# Altium schematic symbol library PC_8OUT_V0.SCHLIB: 66 symbols
Pins are listed as number, name and electrical type; pins without a type are passive.

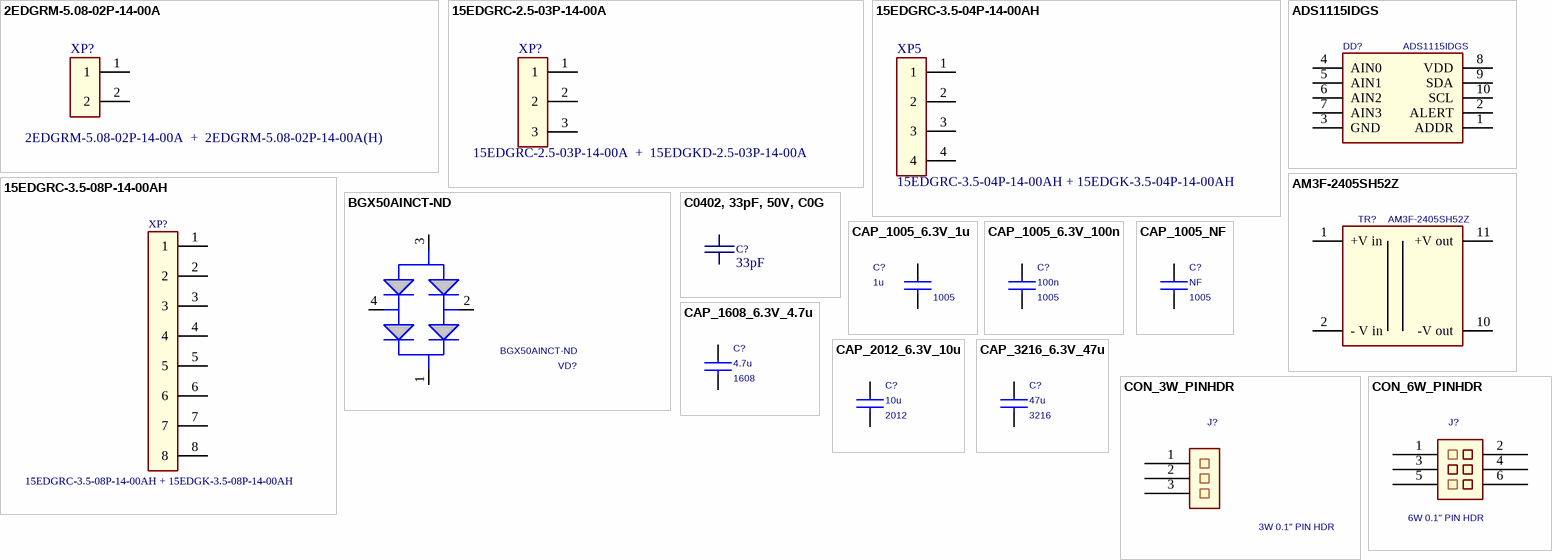
[diagram p0: symbols 2EDGRM-5.08-02P-14-00A to CON_6W_PINHDR]

## 2EDGRM-5.08-02P-14-00A
designator XP?, comment 2EDGRM-5.08-02P-14-00A  +  2EDGRM-5.08-02P-14-00A(H)
2EDGRM-5.08-02P-14-00A
footprint 2EDGRM-5.08-02P-14-00A
pins: 1, 2

## 15EDGRC-2.5-03P-14-00A
designator XP?, comment 15EDGRC-2.5-03P-14-00A  +  15EDGKD-2.5-03P-14-00A
footprint 15EDGRC-2.5-03P-14-00A(H)
pins: 1, 2, 3

## 15EDGRC-3.5-04P-14-00AH
designator XP5, comment 15EDGRC-3.5-04P-14-00AH + 15EDGK-3.5-04P-14-00AH
Connector 15EDGRC-3.5-04P-14-00AH + 15EDGK-3.5-04P-14-00AH
footprint 15EDGRC-3.5-04P-14-00AH
pins: 1, 2, 3, 4

## 15EDGRC-3.5-08P-14-00AH
designator XP?, comment 15EDGRC-3.5-08P-14-00AH + 15EDGK-3.5-08P-14-00AH
Connector 15EDGRC-3.5-08P-14-00AH + 15EDGK-3.5-08P-14-00AH
footprint 15EDGRC-3.5-06P-14-00AH
pins: 1, 2, 3, 4, 5, 6, 7, 8

## ADS1115IDGS
designator DD?
16 Bit Analog to Digital Converter 2, 4 Input 1 Sigma-Delta 10-VSSOP
footprint VSSOP10
pins: 1 ADDR, 2 ALERT, 3 GND, 4 AIN0, 5 AIN1, 6 AIN2, 7 AIN3, 8 VDD, 9 SDA, 10 SCL

## AM3F-2405SH52Z
designator TR?
DC-DC Converter. In 24V out 5V 0.6A
footprint SIP12 (PPAK)
pins: 1 +V in, 2 - V in, 10 -V out, 11 +V out

## BGX50AINCT-ND
designator VD?
footprint SOT-143_BIG1
pins: 1, 2, 3, 4

## C0402, 33pF, 50V, C0G
designator C?  Capacitance: 33pF  (hidden comment: C0402, 33pF, 50V, C0G)
Manufacturer: MURATA; Manufacturer Part Number: GRM155R71C104KA88D; Capacitance Tolerance: ± 10%; Dielectric Characteristic: X7; Voltage Rating: 16; Capacitor Case Style: 0402 [1005 Metric]; Capacitor Terminals: SMD; SVHC: No SVHC (19-Dec-2012); No. of Pins: 2; Reel Quantity: 10000; Tolerance +: 10%; Supplier 1: Farnell; Supplier Part Number 1: 1118151; RoHS: YES; Stock: 3; Pricing: 10000=0.008593, 30000=0.007991 (GBP); Operating Temperature Min: -55; Operating Temperature Max: 125; Operating Temperature Range: -55°C to +125; Package / Case: 0402; Packaging: Reel; Series: GRM Hi-Cap; Terminal Type: Surface Mount (SMD, SMT); Tolerance -: 10%; Voltage Rating V DC: 16; ComponentLink1URL: http://www.farnell.com/datasheets/4360.pdf; ComponentLink1Description: http://www.farnell.com/datasheets/4360.pdf
footprint C0402_IPC High Density (Chip Capacitor, 2-Leads, Body 1.00x0.50mm, IPC High Density)
pins: 1, 2

## CAP_1005_6.3V_1u
designator C?, comment 1u  Size: 1005
CAP, CHIP, 1005, 1u, 10%, 6.3V; Manufacturer: Generic; Material: X7R; Tolerance: 10%; Manuf. Part No: Generic; Voltage: 6.3V
footprint CAPC1005X55N
pins: 1, 2

## CAP_1005_6.3V_100n
designator C?, comment 100n  Size: 1005
CAP, CHIP, 1005, 100n, 10%, 6.3V; Manuf. Part No: Generic; Material: X7R; Voltage: 6.3V; Tolerance: 10%; Manufacturer: Generic
footprint CAPC1005X55N
pins: 1, 2

## CAP_1005_NF
designator C?, comment NF  Size: 1005
CAP, CHIP, 1005; Manuf. Part No: Generic; Material: X7R; Manufacturer: Generic
footprint CAPC1005X55N
pins: 1, 2

## CAP_1608_6.3V_4.7u
designator C?, comment 4.7u  Size: 1608
CAP, CHIP, 1608, 4.7u, 20%, 6.3V; Manufacturer: Generic; Material: X7R; Tolerance: 20%; Manuf. Part No: Generic; Voltage: 6.3V
footprint CAPC1608X90N
pins: 1, 2

## CAP_2012_6.3V_10u
designator C?, comment 10u  Size: 2012
CAP, CHIP, 2012, 10u, 20%, 6.3V; Manufacturer: Generic; Material: X7R; Tolerance: 20%; Manuf. Part No: Generic; Voltage: 6.3V
footprint CAPC2012X145N
pins: 1, 2

## CAP_3216_6.3V_47u
designator C?, comment 47u  Size: 3216
CAP, CHIP, 3216, 47u, 20%, 6.3V; Manufacturer: Generic; Material: X7R; Tolerance: 20%; Manuf. Part No: Generic; Voltage: 6.3V
footprint CAPC3216X180N
pins: 1, 2

## CON_3W_PINHDR
designator J?, comment 3W 0.1" PIN HDR
3W 0.1" pin header; Manuf. Part No: TBD; Manufacturer: TBD
footprint PINHDR_3W_2P54MM
pins: 1 P1, 2 P2, 3 P3

## CON_6W_PINHDR
designator J?, comment 6W 0.1" PIN HDR
6W 0.1" pin header (2x3W); Manufacturer: Generic; Manuf. Part No: Generic
footprint PINHDR_6W_2P54MM
pins: 1 P1, 2 P2, 3 P3, 4 P4, 5 P5, 6 P6

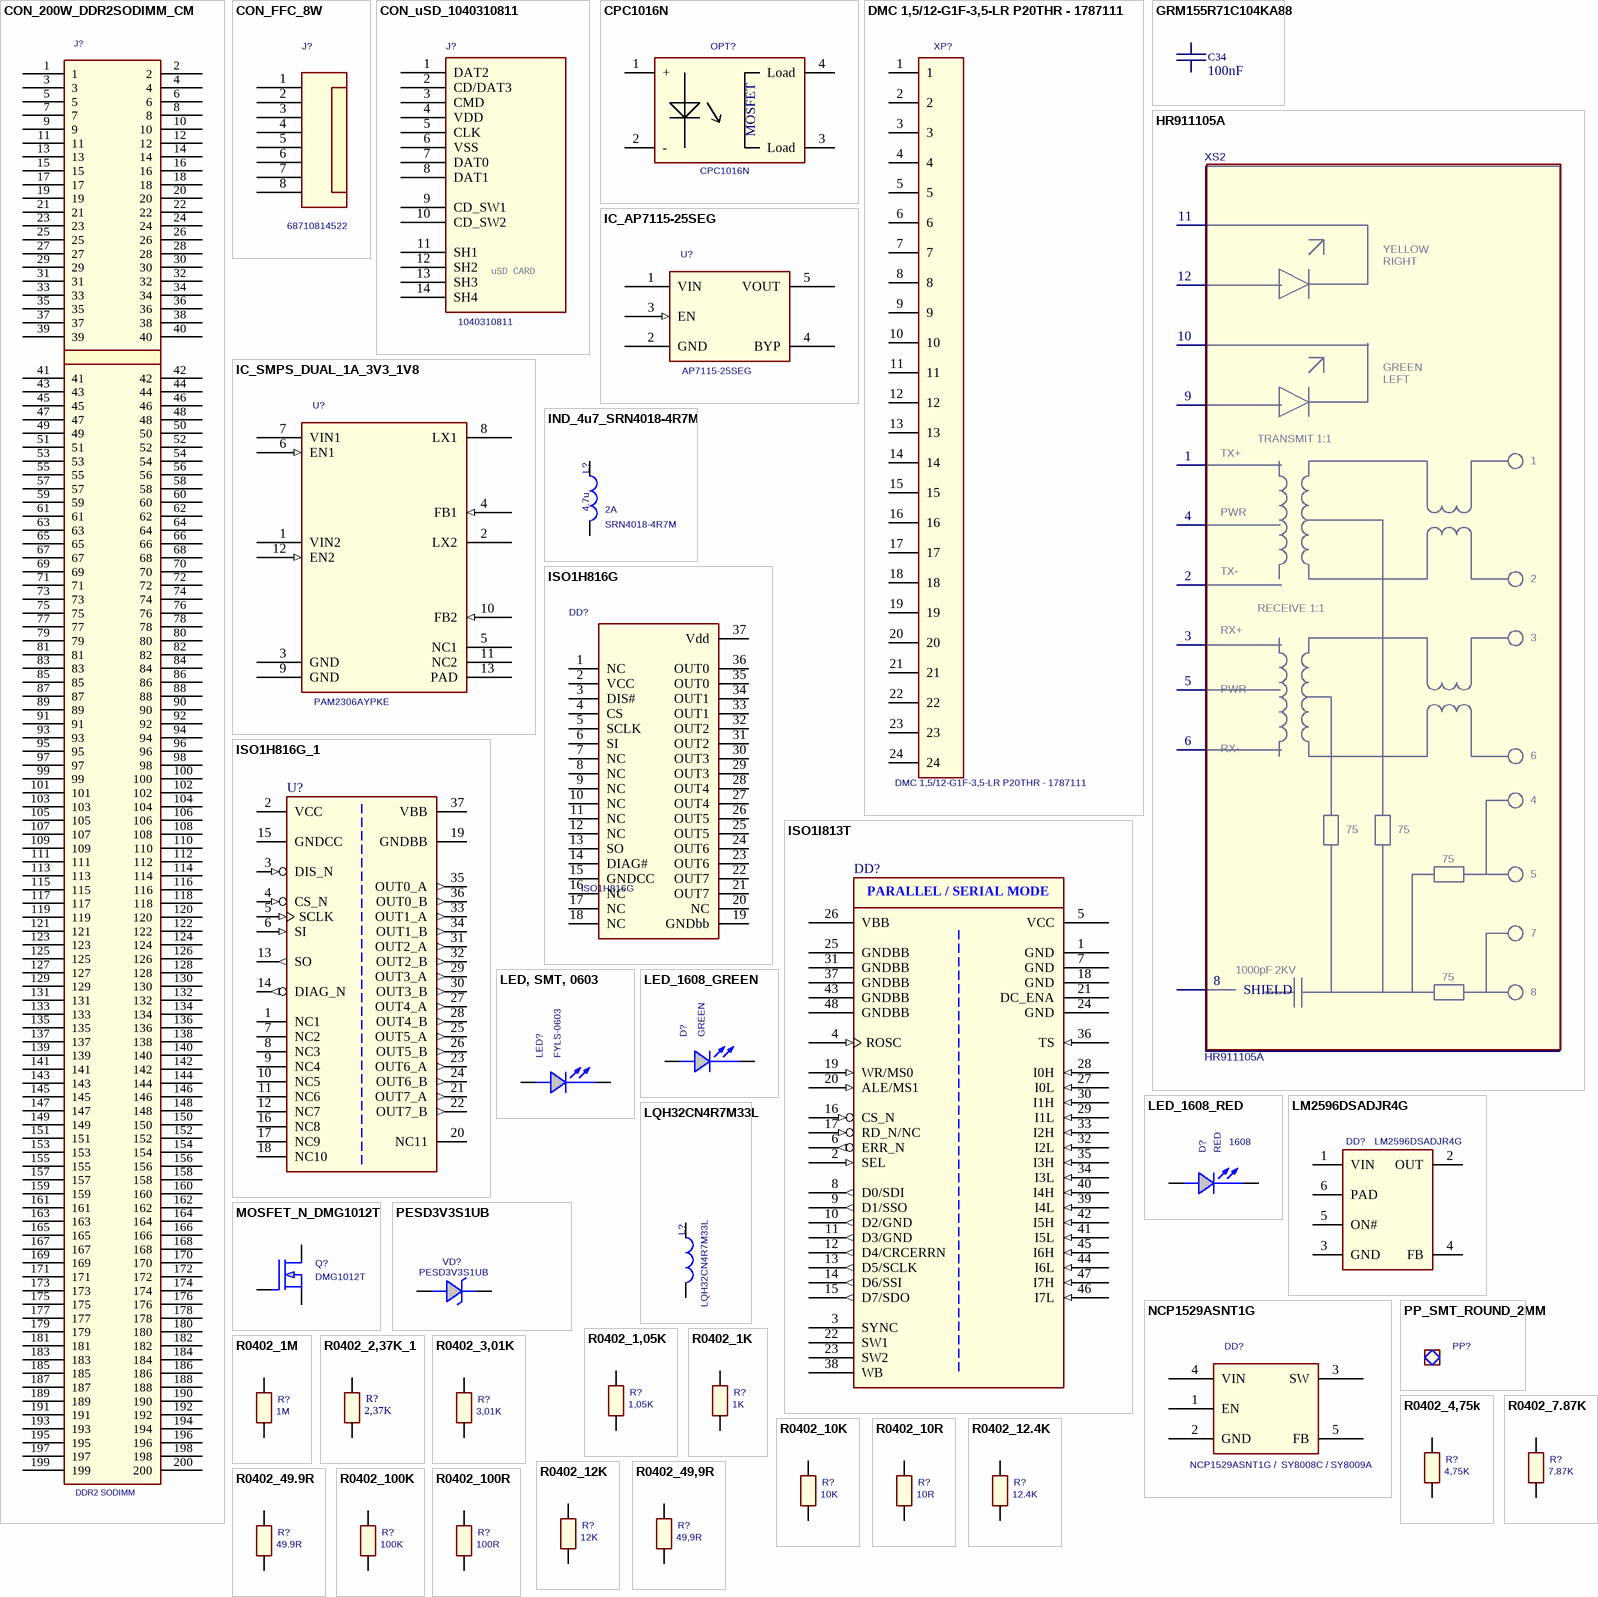
[diagram p1: symbols CON_200W_DDR2SODIMM_CM to R0402_100R]

## CON_200W_DDR2SODIMM_CM
designator J?, comment DDR2 SODIMM
footprint 1473005-4+RPI3 CM
pins: 1, 2, 3, 4, 5, 6, 7, 8, 9, 10, 11, 12, 13, 14, 15, 16, 17, 18, 19, 20, 21, 22, 23, 24, 25, 26, 27, 28, 29, 30, 31, 32, 33, 34, 35, 36, 37, 38, 39, 40, 41, 42, 43, 44, 45, 46, 47, 48, 49, 50, 51, 52, 53, 54, 55, 56, 57, 58, 59, 60, 61, 62, 63, 64, 65, 66, 67, 68, 69, 70, 71, 72, 73, 74, 75, 76, 77, 78, 79, 80, 81, 82, 83, 84, 85, 86, 87, 88, 89, 90, 91, 92, 93, 94, 95, 96, 97, 98, 99, 100, 101, 102, 103, 104, 105, 106, 107, 108, 109, 110, 111, 112, 113, 114, 115, 116, 117, 118, 119, 120, 121, 122, 123, 124, 125, 126, 127, 128, 129, 130, 131, 132, 133, 134, 135, 136, 137, 138, 139, 140, 141, 142, 143, 144, 145, 146, 147, 148, 149, 150, 151, 152, 153, 154, 155, 156, 157, 158, 159, 160, 161, 162, 163, 164, 165, 166, 167, 168, 169, 170, 171, 172, 173, 174, 175, 176, 177, 178, 179, 180, 181, 182, 183, 184, 185, 186, 187, 188, 189, 190, 191, 192, 193, 194, 195, 196, 197, 198, 199, 200

## CON_FFC_8W
designator J?, comment 68710814522
0.5MM FFC 8W RA BOTTOM CONTACT SMT; Manufacturer: Wurth Electronics; Manuf. Part No: 68710814522
footprint WE_68710814522
pins: 1 P1, 2 P2, 3 P3, 4 P4, 5 P5, 6 P6, 7 P7, 8 P8

## CON_uSD_1040310811
designator J?, comment 1040310811
uSD, Normal Mount, SMT, Push-Pull; Manufacturer: Molex; Manuf. Part No: 1040310811
footprint MOLEX_1040310811
pins: 1 DAT2, 2 CD/DAT3, 3 CMD, 4 VDD (power), 5 CLK, 6 VSS (power), 7 DAT0, 8 DAT1, 9 CD_SW1, 10 CD_SW2, 11 SH1, 12 SH2, 13 SH3, 14 SH4
text: uSD CARD

## CPC1016N
designator OPT?
Single-Pole, Normally Open  4-Lead SOP OptoMOS Relay
footprint SOP4
pins: 1 +, 2 -, 3 Load, 4 Load
text: MOSFET

## DMC 1,5/12-G1F-3,5-LR P20THR - 1787111
designator XP?
version with 20 contacts    Header, nominal current: 8 A, rated voltage (III/2): 160 V, number of positions: 12, pitch: 3.5 mm, color: black, contact surface: Tin, mounting: THR soldering
footprint DMC 1,5/12-G1F-3,5-LR P20THR - 1787111 (PCI EXPRESS CARD EDGE CONN 36 PIN V-TYPE)
pins: 1, 2, 3, 4, 5, 6, 7, 8, 9, 10, 11, 12, 13, 14, 15, 16, 17, 18, 19, 20, 21, 22, 23, 24

## GRM155R71C104KA88
designator C34  Capacitance: 100nF  (hidden comment: GRM155R71C104KA88)
C0402, 100nF,  16V, X7R; Manufacturer: MURATA; Manufacturer Part Number: GRM155R71C104KA88D; Capacitance Tolerance: ± 10%; Dielectric Characteristic: X7; Voltage Rating: 16; Capacitor Case Style: 0402 [1005 Metric]; Capacitor Terminals: SMD; SVHC: No SVHC (19-Dec-2012); No. of Pins: 2; Reel Quantity: 10000; Tolerance +: 10%; Supplier 1: Farnell; Supplier Part Number 1: 1118151; RoHS: YES; Stock: 3; Pricing: 10000=0.008593, 30000=0.007991 (GBP); Operating Temperature Min: -55; Operating Temperature Max: 125; Operating Temperature Range: -55°C to +125; Package / Case: 0402; Packaging: Reel; Series: GRM Hi-Cap; Terminal Type: Surface Mount (SMD, SMT); Tolerance -: 10%; Voltage Rating V DC: 16; ComponentLink1URL: http://www.farnell.com/datasheets/4360.pdf; ComponentLink1Description: http://www.farnell.com/datasheets/4360.pdf
footprint C0402_IPC High Density (Chip Capacitor, 2-Leads, Body 1.00x0.50mm, IPC High Density)
pins: 1, 2

## HR911105A
designator XS2
Single Port RJ45 connector with magnetics module and LED
pins: 1, 2, 3, 4, 5, 6, 8 SHIELD, 9, 10, 11, 12, 113 hidden, 114 hidden, 115 hidden, 116 hidden, 117 hidden, 118 hidden, 119 hidden, 120 hidden, 121 hidden
text: YELLOW; RIGHT; GREEN; LEFT; TRANSMIT 1:1; TX+; PWR; TX-; RECEIVE 1:1; RX+; RX-; 75; 7; 1000pF 2KV

## IC_AP7115-25SEG
designator U?, comment AP7115-25SEG
IC, LDO, 2.5V, 150mA SOT-25; Manuf. Part No: AP7115-25SEG-7; Manufacturer: Diodes Inc; Size: SOT323
footprint SOT65P210X100-5N
pins: 1 VIN (power), 2 GND (power), 3 EN (in), 4 BYP, 5 VOUT (power)

## IC_SMPS_DUAL_1A_3V3_1V8
designator U?, comment PAM2306AYPKE
IC, SMT, Dual SMPS, V1=3V3, V2=1V8; Manufacturer: Diodes; Manuf. Part No: PAM2306AYPKE
footprint DIODES_PAM2306
pins: 1 VIN2 (power), 2 LX2, 3 GND (power), 4 FB1 (in), 5 NC1, 6 EN1 (in), 7 VIN1 (power), 8 LX1, 9 GND (power), 10 FB2 (in), 11 NC2, 12 EN2 (in), 13 PAD (power)

## IND_4u7_SRN4018-4R7M
designator L?, comment 4.7u  Current: 2A  Manuf. Part No: SRN4018-4R7M
Semi shielded power inductor, 4.7uH, Isat=2A, Irma=1.9A, R=84mR; Manufacturer: Bourns; Tolerance: 20%; Size: 4x4mm
footprint BOURNS_SRN4018
pins: 1, 2

## ISO1H816G
designator DD?
IC SWITCH HISIDE 8CH DSO-36
pins: 1 NC, 2 VCC, 3 DIS#, 4 CS, 5 SCLK, 6 SI, 7 NC, 8 NC, 9 NC, 10 NC, 11 NC, 12 NC, 13 SO, 14 DIAG#, 15 GNDCC, 16 NC, 17 NC, 18 NC, 19 GNDbb, 20 NC, 21 OUT7, 22 OUT7, 23 OUT6, 24 OUT6, 25 OUT5, 26 OUT5, 27 OUT4, 28 OUT4, 29 OUT3, 30 OUT3, 31 OUT2, 32 OUT2, 33 OUT1, 34 OUT1, 35 OUT0, 36 OUT0, 37 Vdd

## ISO1H816G_1
designator U?, comment ISO1H816G  (value not drawn)
Galvanic Isolated 8 Channel 1.2A High-Side Switch; Manufacturer: Infineon Technologies; ManufacturerPartNumber: ISO1H816G; PackageReference: PG-DSO-36
footprint SOP65P1420X350-37N-1-V (SOP,0.65mm pitch;36 pin,11.00mm W X 15.90mm L X 3.50mm H body (w/thermal tab))
pins: 1 NC1 "Not Connected", 2 VCC (power) "Positive 3.3/5V logic supply", 3 DIS_N (in) "Output disable", 4 CS_N (in) "Chip select", 5 SCLK (in) "Serial Clock", 6 SI (in) "Serial Data input", 7 NC2 "Not Connected", 8 NC3 "Not Connected", 9 NC4 "Not Connected", 10 NC5 "Not Connected", 11 NC6 "Not Connected", 12 NC7 "Not Connected", 13 SO (out) "Serial Data Output", 14 DIAG_N (out) "Common diagnostic output", 15 GNDCC (power) "Input logic ground", 16 NC8 "Not Connected", 17 NC9 "Not Connected", 18 NC10 "Not Connected", 19 GNDBB (power) "Output driver ground", 20 NC11 "Not Connected", 21 OUT7_A (out) "High-side output of channel 7", 22 OUT7_B (out) "High-side Output of Channel 7", 23 OUT6_A (out) "High-side Output of Channel 6", 24 OUT6_B (out) "High-side Output of Channel 6", 25 OUT5_A (out) "High-side Output of Channel 5", 26 OUT5_B (out) "High-side Output of Channel 5", 27 OUT4_A (out) "High-side Output of Channel 4", 28 OUT4_B (out) "High-side Output of Channel 4", 29 OUT3_A (out) "High-side Output of Channel 3", 30 OUT3_B (out) "High-side Output of Channel 3", 31 OUT2_A (out) "High-side Output of Channel 2", 32 OUT2_B (out) "High-side Output of Channel 2", 33 OUT1_A (out) "High-side Output of Channel 1", 34 OUT1_B (out) "High-side Output of Channel 1", 35 OUT0_A (out) "High-side Output of Channel 0", 36 OUT0_B (out) "High-side Output of Channel 0", 37 VBB (power) "Positive Driver Power Supply Voltage"

## ISO1I813T
designator DD?  (value not drawn)
Isolated 8 Channel Digital Input with IEC61131-2 Type 1/2/3 Characteristics; Alternate View: Yes; Symbol Interface Mode: Parallel / Serial; Symbol Type: Isolated 8 Channel Digital Input with IEC61131-2 Type 1/2/3 Characteristics
footprint SOP50P810X110-48N (SOP,0.50mm pitch;48 pin,6.10mm W X 12.50mm L X 1.10mm H body)
pins: 1 GND (power) "Logic Ground", 2 SEL (in) "Serial Parallel Mode Select", 3 SYNC "not connected", 4 ROSC (in) "Clock Frequency Adjustment", 5 VCC (power) "Positive 5/3.3V logic supply", 6 ERR_N (out) "Error output", 7 GND (power) "Logic Ground", 8 D0/SDI (out) "Data Output Bit0", 9 D1/SSO (out) "Data Output Bit1", 10 D2/GND (out) "Data Output Bit2", 11 D3/GND (out) "Data Output Bit3", 12 D4/CRCERRN (out) "Data Output Bit4", 13 D5/SCLK (out) "Data Output Bit5", 14 D6/SSI (out) "Data Output Bit6", 15 D7/SDO (out) "Data Output Bit7", 16 CS_N (in) "Chip Select", 17 RD_N/NC (in) "Data Read Input", 18 GND (power) "Logic Ground", 19 WR/MS0 (in) "Filter Select Input 0", 20 ALE/MS1 (in) "Filter Select Input 1", 21 DC_ENA (power) "Logic Ground", 22 SW1 "Not Connected", 23 SW2 "Not Connected", 24 GND (power) "Logic Ground", 25 GNDBB (power) "Input Ground", 26 VBB (power) "Positive Input Supply Voltage", 27 I0L (in) "Input 0 Low, LED Out", 28 I0H (in) "Input 0 High", 29 I1L (in) "Input 1 Low, LED Out", 30 I1H (in) "Input 1 High", 31 GNDBB (power) "Input Ground", 32 I2L (in) "Input 2 Low, LED Out", 33 I2H (in) "Input 2 High", 34 I3L (in) "Input 3 Low, LED Out", 35 I3H (in) "Input 3 High", 36 TS (in) "Sensor Type 1/2/3 Select", 37 GNDBB (power) "Input Ground", 38 WB "Not Connected", 39 I4L (in) "Input 4 Low, LED Out", 40 I4H (in) "Input 4 High", 41 I5L (in) "Input 5 Low, LED Out", 42 I5H (in) "Input 5 High", 43 GNDBB (power) "Input Ground", 44 I6L (in) "Input 6 Low, LED Out", 45 I6H (in) "Input 6 High", 46 I7L (in) "Input 7 Low, LED Out", 47 I7H (in) "Input 7 High", 48 GNDBB (power) "Input Ground"
1 alternate drawing of the same symbol
text: PARALLEL / SERIAL MODE

## LED, SMT, 0603
designator LED?, comment FYLS-0603
LED, SMT, 0603, Generic; Size: 1608; Manuf. Part No: Generic; Manufacturer: Generic
footprint LED 0603 (1.6X0.8X0.8) (SM LED; 2 Flat Leads)
pins: 1 ANODE, 2 CATHODE

## LED_1608_GREEN
designator D?, comment GREEN
LED, SMT, 1608, GREEN; Manuf. Part No: Generic; Size: 1608; Manufacturer: Generic
footprint LEDC1608X80N
pins: 1 CATHODE, 2 ANODE

## LED_1608_RED
designator D?, comment RED  Size: 1608
LED, SMT, 1608, RED; Manufacturer: Generic; Manuf. Part No: Generic
footprint LEDC1608X80N
pins: 1 CATHODE, 2 ANODE

## LM2596DSADJR4G
designator DD?
Buck, Boost, Buck-Boost Switching Regulator IC Positive or Negative Adjustable 1.23V 1 Output 3A TO-263-6, D²Pak (5 Leads + Tab), TO-263BA
footprint D2PAK (TO-263-5)
pins: 1 VIN (power), 2 OUT, 3 GND (power), 4 FB, 5 ON# (power), 6 PAD

## LQH32CN4R7M33L
designator L?
FIXED IND 4.7UH 650MA 150 MOHM
footprint LQH32CN
pins: 1, 2

## MOSFET_N_DMG1012T
designator Q?, comment DMG1012T
MOSFET, N, LOW VT, LOGIC; Manufacturer: Diodes Inc; Manuf. Part No: DMG1012T
footprint SOT50P160X90-3N
pins: 1 G, 2 S, 3 D

## NCP1529ASNT1G
designator DD?, comment NCP1529ASNT1G /  SY8008C / SY8009A
, High Efficiency,  Low Ripple, Adjustable  Output Voltage Step-down  Converter, SOT23-5
footprint SOT23-5
pins: 1 EN (power), 2 GND (power), 3 SW, 4 VIN, 5 FB (power)

## PESD3V3S1UB
designator VD?
TVS DIODE 3.3V  SOD523
footprint SOD-523
pins: 1, 2

## PP_SMT_ROUND_2MM
designator PP?  (value not drawn)
Probe Pad, SMT, ROUND, 2.0MM
footprint PP_SMT_R2MM
pins: 1

## R0402_1,05K
designator R?, comment 1,05K
RES, 0402, 1.05K 1%,; Tolerance: 1%
footprint RESC1005X40N
footprint RESC1005[0402]
pins: 1, 2

## R0402_1K
designator R?, comment 1K
RES, 0402, 1K 1%,; Tolerance: 1%
footprint RESC1005X40N
footprint RESC1005[0402]
pins: 1, 2

## R0402_1M
designator R?, comment 1M
RES, 0402, 1M; Tolerance: 1%
footprint RESC1005X40N
footprint RESC1005[0402]
pins: 1, 2

## R0402_2,37K_1
designator R?, comment 2,37K
RES, 0402, 2.37K 1%,; Tolerance: 1%
footprint RESC1005X40N
footprint RESC1005[0402]
pins: 1, 2

## R0402_3,01K
designator R?, comment 3,01K
RES, 0402, 3.01K 1%,; Tolerance: 1%
footprint RESC1005X40N
footprint RESC1005[0402]
pins: 1, 2

## R0402_4,75k
designator R?, comment 4,75K
RES, 0402, 4.75K 1%,; Tolerance: 1%
footprint RESC1005X40N
footprint RESC1005[0402]
pins: 1, 2

## R0402_7.87K
designator R?, comment 7.87K
RES, 0402, 7.87K 1%,; Tolerance: 1%
footprint RESC1005X40N
footprint RESC1005[0402]
pins: 1, 2

## R0402_10K
designator R?, comment 10K
RES, 0402, 10K 1%,; Tolerance: 1%
footprint RESC1005X40N
footprint RESC1005[0402]
pins: 1, 2

## R0402_10R
designator R?, comment 10R
RES, 0402, 10R 1%,; Tolerance: 1%
footprint RESC1005X40N
footprint RESC1005[0402]
pins: 1, 2

## R0402_12.4K
designator R?, comment 12.4K
RES, 0402, 12.4K 1%,; Tolerance: 1%
footprint RESC1005X40N
footprint RESC1005[0402]
pins: 1, 2

## R0402_12K
designator R?, comment 12K
RES, 0402, 12K 1%,; Tolerance: 1%
footprint RESC1005X40N
footprint RESC1005[0402]
pins: 1, 2

## R0402_49,9R
designator R?, comment 49,9R
RES, 0402, 49.9R 1%,; Tolerance: 1%
footprint RESC1005X40N
footprint RESC1005[0402]
pins: 1, 2

## R0402_49.9R
designator R?, comment 49.9R
RES, 0402, 49.9R 1%,; Tolerance: 1%
footprint RESC1005X40N
footprint RESC1005[0402]
pins: 1, 2

## R0402_100K
designator R?, comment 100K
RES, 0402, 100K 1%,; Tolerance: 1%
footprint RESC1005X40N
footprint RESC1005[0402]
pins: 1, 2

## R0402_100R
designator R?, comment 100R
RES, 0402, 100R 1%,; Tolerance: 1%
footprint RESC1005X40N
footprint RESC1005[0402]
pins: 1, 2

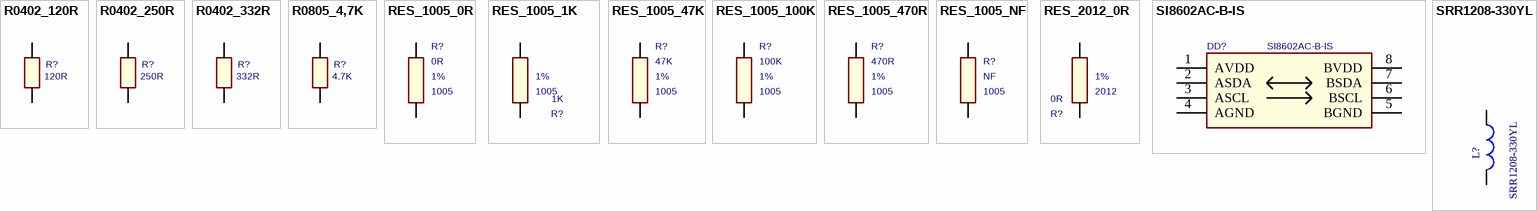
[diagram p2: symbols R0402_120R to SRR1208-330YL]

## R0402_120R
designator R?, comment 120R
RES, 0402, 120R 1%,; Tolerance: 1%
footprint RESC1005X40N
footprint RESC1005[0402]
pins: 1, 2

## R0402_250R
designator R?, comment 250R
RES, 0402, 250R 1%,; Tolerance: 1%
footprint RESC1005X40N
footprint RESC1005[0402]
pins: 1, 2

## R0402_332R
designator R?, comment 332R
RES, 0402, 332R 1%,; Tolerance: 1%
footprint RESC1005X40N
footprint RESC1005[0402]
pins: 1, 2

## R0805_4,7K
designator R?, comment 4.7K
RES, 0805, 4.7K; Tolerance: 1%
footprint R0805
pins: 1, 2

## RES_1005_0R
designator R?, comment 0R  Tolerance: 1%  Size: 1005
RES, CHIP, 1005, 0R, 1%, 0.063W; Manufacturer: Generic; Power: 63mW; Manuf. Part No: Generic
footprint RESC1005X40N
pins: 1, 2

## RES_1005_1K
designator R?, comment 1K  Size: 1005  Tolerance: 1%
RES, CHIP, 1005, 1K, 1%, 0.063W; Manuf. Part No: Generic; Power: 63mW; Manufacturer: Generic
footprint RESC1005X40N
pins: 1, 2

## RES_1005_47K
designator R?, comment 47K  Tolerance: 1%  Size: 1005
RES, CHIP, 1005, 47K, 1%, 0.063W; Manufacturer: Generic; Power: 63mW; Manuf. Part No: Generic
footprint RESC1005X40N
pins: 1, 2

## RES_1005_100K
designator R?, comment 100K  Size: 1005  Tolerance: 1%
RES, CHIP, 1005, 100K, 1%, 0.063W; Manuf. Part No: Generic; Power: 63mW; Manufacturer: Generic
footprint RESC1005X40N
pins: 1, 2

## RES_1005_470R
designator R?, comment 470R  Tolerance: 1%  Size: 1005
RES, CHIP, 1005, 470R, 1%, 0.063W; Manufacturer: Generic; Power: 63mW; Manuf. Part No: Generic
footprint RESC1005X40N
pins: 1, 2

## RES_1005_NF
designator R?, comment NF  Size: 1005
RES, CHIP, 1005, 1%, 0.063W; Manuf. Part No: Generic; Power: 63mW; Manufacturer: Generic
footprint RESC1005X40N
pins: 1, 2

## RES_2012_0R
designator R?, comment 0R  Size: 2012  Tolerance: 1%
RES, CHIP, 2012, 1%, 0.25W 0R; Manuf. Part No: Generic; Power: 0.1W; Manufacturer: Generic
footprint RESC2012X65N
pins: 1, 2

## SI8602AC-B-IS
designator DD?
I²C Digital Isolator 3750Vrms 2 Channel  35kV/µs CMTI 8-SOIC (0.154", 3.90mm Width)
footprint SO-8_L (SOIC, 8-Leads, Body 4.9x3.9mm, Pitch 1.27mm, IPC High Density)
pins: 1 AVDD, 2 ASDA, 3 ASCL, 4 AGND, 5 BGND, 6 BSCL, 7 BSDA, 8 BVDD

## SRR1208-330YL
designator L?
33µH Shielded Wirewound Inductor 2.8A 62 mOhm Max Nonstandard
footprint SRR1208
pins: 1, 2